# Altium footprint library L78M05CDT-TR.PcbLib: 3 footprints
Each footprint in its own frame and in the unit in brackets; x right, y up, seen from the top. Pads: shape width x height; smd on the part's side, far side on the other; paste and mask are expansions set on the pad; w line width, h text height; cw(c..) or ccw(c..) is an arc to the next point about the centre after c.
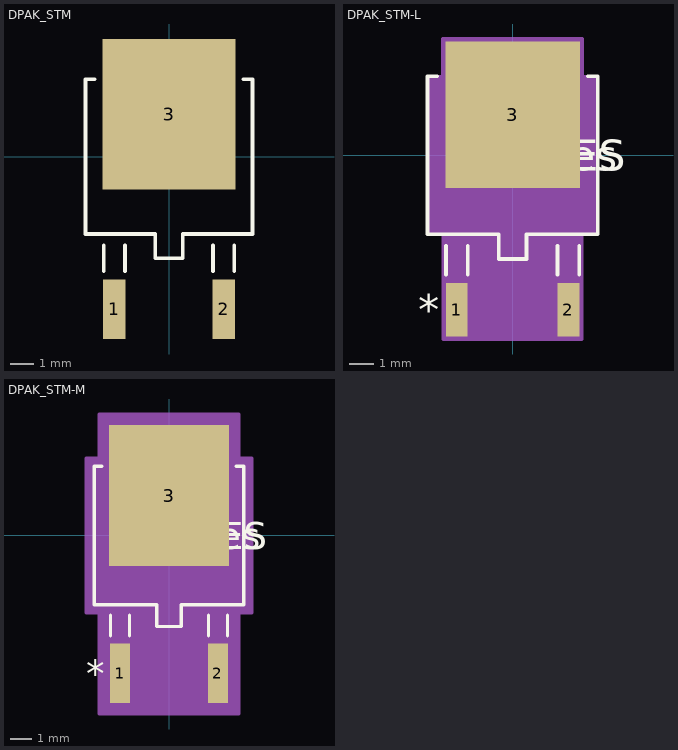
[diagram p0: the footprints below, top view; thin cyan lines are the x and y axes]

## DPAK_STM [mil]
pads (3):
  rect 37x98 smd paste+0 mask+0: 1(-90,-251.5) 2(90,-251.5)
  rect 219x248 smd paste+0 mask+0: 3(0,69.5)
Top Overlay:
  lines w6: -122.6,127.5 -137.5,127.5 -137.5,-127.5 -22.5,-127.5 -22.5,-167.5 22.5,-167.5 22.5,-127.5 137.5,-127.5 137.5,127.5 122.6,127.5 ; -107.5,-188.5 -107.5,-146.5 ; -72.5,-188.5 -72.5,-146.5 ; 72.5,-188.5 72.5,-146.5 ; 107.5,-188.5 107.5,-146.5
3D body "TO228P1010X240-3N_JEDEC_TO-252AA_ST_MICROELECTRONICS_DPAK.STEP": height 94.49, standoff 0, extent -125.41,-261.22 125.41,136.42

## DPAK_STM-L [mil]
pads (3):
  rect 35x86 smd paste+0 mask+0: 1(-90,-249.5) 2(90,-249.5)
  rect 217x236 smd paste+0 mask+0: 3(0,65.5)
Top Overlay:
  lines w6: -121.6,127.5 -137.5,127.5 -137.5,-127.5 -22.5,-127.5 -22.5,-167.5 22.5,-167.5 22.5,-127.5 137.5,-127.5 137.5,127.5 121.6,127.5 ; -107.5,-192.5 -107.5,-146.5 ; -72.5,-192.5 -72.5,-146.5 ; 72.5,-192.5 72.5,-146.5 ; 107.5,-192.5 107.5,-146.5
  text "REFDES" at -87.5,-25 h50
  text "*" at -152.5,-274.5 h50
  text "RefDes" at -75,-25 h50
Mechanical 13:
  lines w1: -132.5,-122.5 132.5,-122.5 132.5,122.5 -132.5,122.5 -132.5,-122.5 ; -107.5,-286.5 -107.5,-122.5 -72.5,-122.5 -72.5,-286.5 -107.5,-286.5 ; -17.5,-162.5 -17.5,-122.5 17.5,-122.5 17.5,-162.5 -17.5,-162.5 ; 72.5,-286.5 72.5,-122.5 107.5,-122.5 107.5,-286.5 72.5,-286.5
  text "*" at -102.5,-137.5 h50
  text "RefDes2" at -87.5,-25 h50
Mechanical 15:
  region: -136.5,-126.5 -136.5,126.5 -112.5,126.5 -112.5,187.5 112.5,187.5 112.5,126.5 136.5,126.5 136.5,-126.5 111.5,-126.5 111.5,-296.5 -111.5,-296.5 -111.5,-126.5
  lines w6: -136.5,-126.5 -136.5,126.5 -112.5,126.5 -112.5,187.5 112.5,187.5 112.5,126.5 136.5,126.5 136.5,-126.5 111.5,-126.5 111.5,-296.5 -111.5,-296.5 -111.5,-126.5 -136.5,-126.5

## DPAK_STM-M [mil]
pads (3):
  rect 37x110 smd paste+0 mask+0: 1(-90,-253.5) 2(90,-253.5)
  rect 221x260 smd paste+0 mask+0: 3(0,73.5)
Top Overlay:
  lines w6: -123.6,127.5 -137.5,127.5 -137.5,-127.5 -22.5,-127.5 -22.5,-167.5 22.5,-167.5 22.5,-127.5 137.5,-127.5 137.5,127.5 123.6,127.5 ; -107.5,-184.5 -107.5,-146.5 ; -72.5,-184.5 -72.5,-146.5 ; 72.5,-184.5 72.5,-146.5 ; 107.5,-184.5 107.5,-146.5
  text "REFDES" at -87.5,-25 h50
  text "*" at -152.5,-278.5 h50
  text "RefDes" at -75,-25 h50
Mechanical 13:
  lines w1: -132.5,-122.5 132.5,-122.5 132.5,122.5 -132.5,122.5 -132.5,-122.5 ; -107.5,-286.5 -107.5,-122.5 -72.5,-122.5 -72.5,-286.5 -107.5,-286.5 ; -17.5,-162.5 -17.5,-122.5 17.5,-122.5 17.5,-162.5 -17.5,-162.5 ; 72.5,-286.5 72.5,-122.5 107.5,-122.5 107.5,-286.5 72.5,-286.5
  text "*" at -102.5,-137.5 h50
  text "RefDes2" at -87.5,-25 h50
Mechanical 15:
  region: -152.5,-142.5 -152.5,142.5 -128.5,142.5 -128.5,223.5 128.5,223.5 128.5,142.5 152.5,142.5 152.5,-142.5 128.5,-142.5 128.5,-328.5 -128.5,-328.5 -128.5,-142.5
  lines w6: -152.5,-142.5 -152.5,142.5 -128.5,142.5 -128.5,223.5 128.5,223.5 128.5,142.5 152.5,142.5 152.5,-142.5 128.5,-142.5 128.5,-328.5 -128.5,-328.5 -128.5,-142.5 -152.5,-142.5